# EAGLE library part TMUX1309 (library Fancy_InternetRadio)
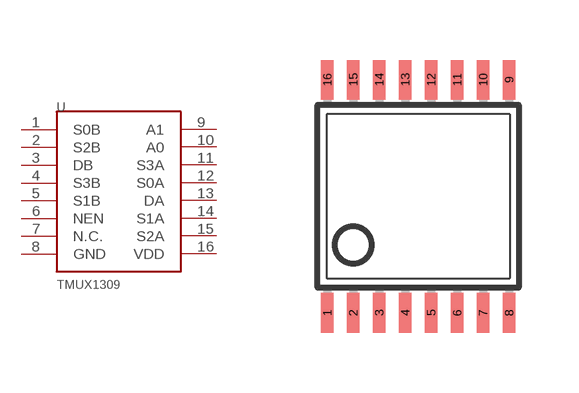
[diagram p2: symbol with the pads of TSSOP16; footprint TSSOP16]

Designator prefix -

## TMUX1309  [TSSOP16]
1  S0B
2  S2B
3  DB
4  S3B
5  S1B
6  NEN
7  N.C.
8  GND
9  A1
10  A0
11  S3A
12  S0A
13  DA
14  S1A
15  S2A
16  VDD

## Footprint TSSOP16 (pad centres in mm)
Thin Shrink Small Outline Plastic 16 MAX3223-MAX3243.pdf
smd 0.305 x 0.991: 1 -2.275,-2.918; 2 -1.625,-2.918; 3 -0.975,-2.918; 4 -0.325,-2.918; 5 0.325,-2.918; 6 0.975,-2.918; 7 1.625,-2.918; 8 2.275,-2.918; 9 2.275,2.918; 10 1.625,2.918; 11 0.975,2.918; 12 0.325,2.918; 13 -0.325,2.918; 14 -0.975,2.918; 15 -1.625,2.918; 16 -2.275,2.918